# Altium footprint library SS2040FL_R1_00001.PcbLib: 3 footprints
Each footprint in its own frame and in the unit in brackets; x right, y up, seen from the top. Pads: shape width x height; smd on the part's side, far side on the other; paste and mask are expansions set on the pad; w line width, h text height; cw(c..) or ccw(c..) is an arc to the next point about the centre after c.
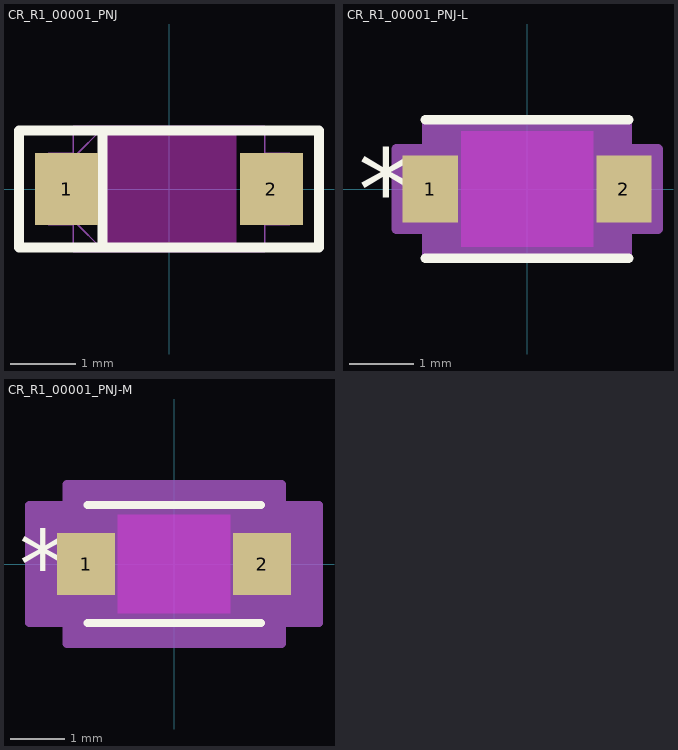
[diagram p0: the footprints below, top view; thin cyan lines are the x and y axes]

## CR_R1_00001_PNJ [mil]
pads (2):
  rect 37.87x43 smd paste+0 mask+0: 1(-61.44,0) 2(61.44,0)
Top Layer keep-out:
  region: -40.5,-35.5 -40.5,35.5 40.5,35.5 40.5,-35.5
Top Overlay:
  lines w6: -40,-35 -40,35 ; -90,-35 -90,35 90,35 90,-35 -90,-35
Keep-Out Layer:
  region: -40.5,-35.5 -40.5,35.5 40.5,35.5 40.5,-35.5
Mechanical 13:
  lines w1: -57.5,-18.75 -38.75,-37.5 ; -57.5,18.75 -38.75,37.5 ; -72.5,-21.5 -57.5,-21.5 -57.5,21.5 -72.5,21.5 -72.5,-21.5 ; -57.5,-37.5 -57.5,37.5 57.5,37.5 57.5,-37.5 -57.5,-37.5 ; 57.5,-21.5 72.5,-21.5 72.5,21.5 57.5,21.5 57.5,-21.5
3D body "CR_R1_00001_PNJ.step": height 43.27, standoff 0, extent -72.52,-37.48 72.52,37.48

## CR_R1_00001_PNJ-L [mil]
pads (2):
  rect 33.94x41.03 smd paste+0 mask+0: 1(-59.47,0) 2(59.47,0)
Top Layer keep-out:
  region: -40.5,-35.5 -40.5,35.5 40.5,35.5 40.5,-35.5
Top Overlay:
  lines w6: -62.5,-42.5 62.5,-42.5 ; -62.5,42.5 62.5,42.5
  text ".Designator" at -137.5,-25 h50
  text "*" at -103.94,-25 h50
Keep-Out Layer:
  region: -40.5,-35.5 -40.5,35.5 40.5,35.5 40.5,-35.5
Mechanical 13:
  lines w1: -57.5,-18.75 -38.75,-37.5 ; -57.5,18.75 -38.75,37.5 ; -72.5,-21.5 -72.5,21.5 -57.5,21.5 -57.5,-21.5 -72.5,-21.5 ; -57.5,-37.5 57.5,-37.5 57.5,37.5 -57.5,37.5 -57.5,-37.5 ; 57.5,-21.5 57.5,21.5 72.5,21.5 72.5,-21.5 57.5,-21.5
  text "*" at -60,-25 h50
  text ".Designator" at -137.5,-25 h50
Mechanical 15:
  region: -61.5,-24.52 -80.44,-24.52 -80.44,24.52 -61.5,24.52 -61.5,41.5 61.5,41.5 61.5,24.52 80.44,24.52 80.44,-24.52 61.5,-24.52 61.5,-41.5 -61.5,-41.5
  lines w6: -80.44,-24.52 -80.44,24.52 -61.5,24.52 -61.5,41.5 61.5,41.5 61.5,24.52 80.44,24.52 80.44,-24.52 61.5,-24.52 61.5,-41.5 -61.5,-41.5 -61.5,-24.52 -80.44,-24.52
3D body "CR_R1_00001_PNJ.step": height 43.27, standoff 0, extent -72.52,-37.48 72.52,37.48

## CR_R1_00001_PNJ-M [mil]
pads (2):
  rect 41.81x44.97 smd paste+0 mask+0: 1(-63.41,0) 2(63.41,0)
Top Layer keep-out:
  region: -40.5,-35.5 -40.5,35.5 40.5,35.5 40.5,-35.5
Top Overlay:
  lines w6: -62.5,-42.5 62.5,-42.5 ; -62.5,42.5 62.5,42.5
  text ".Designator" at -137.5,-25 h50
  text "*" at -111.81,-25 h50
Keep-Out Layer:
  region: -40.5,-35.5 -40.5,35.5 40.5,35.5 40.5,-35.5
Mechanical 13:
  lines w1: -57.5,-18.75 -38.75,-37.5 ; -57.5,18.75 -38.75,37.5 ; -72.5,-21.5 -72.5,21.5 -57.5,21.5 -57.5,-21.5 -72.5,-21.5 ; -57.5,-37.5 57.5,-37.5 57.5,37.5 -57.5,37.5 -57.5,-37.5 ; 57.5,-21.5 57.5,21.5 72.5,21.5 72.5,-21.5 57.5,-21.5
  text "*" at -60,-25 h50
  text ".Designator" at -137.5,-25 h50
Mechanical 15:
  region: -77.5,-42.48 -104.31,-42.48 -104.31,42.48 -77.5,42.48 -77.5,57.5 77.5,57.5 77.5,42.48 104.31,42.48 104.31,-42.48 77.5,-42.48 77.5,-57.5 -77.5,-57.5
  lines w6: -104.31,-42.48 -104.31,42.48 -77.5,42.48 -77.5,57.5 77.5,57.5 77.5,42.48 104.31,42.48 104.31,-42.48 77.5,-42.48 77.5,-57.5 -77.5,-57.5 -77.5,-42.48 -104.31,-42.48
3D body "CR_R1_00001_PNJ.step": height 43.27, standoff 0, extent -72.52,-37.48 72.52,37.48